# Altium footprint library BK885.PcbLib: 1 footprints
Each footprint in its own frame and in the unit in brackets; x right, y up, seen from the top. Pads: shape width x height; smd on the part's side, far side on the other; paste and mask are expansions set on the pad; w line width, h text height; cw(c..) or ccw(c..) is an arc to the next point about the centre after c.
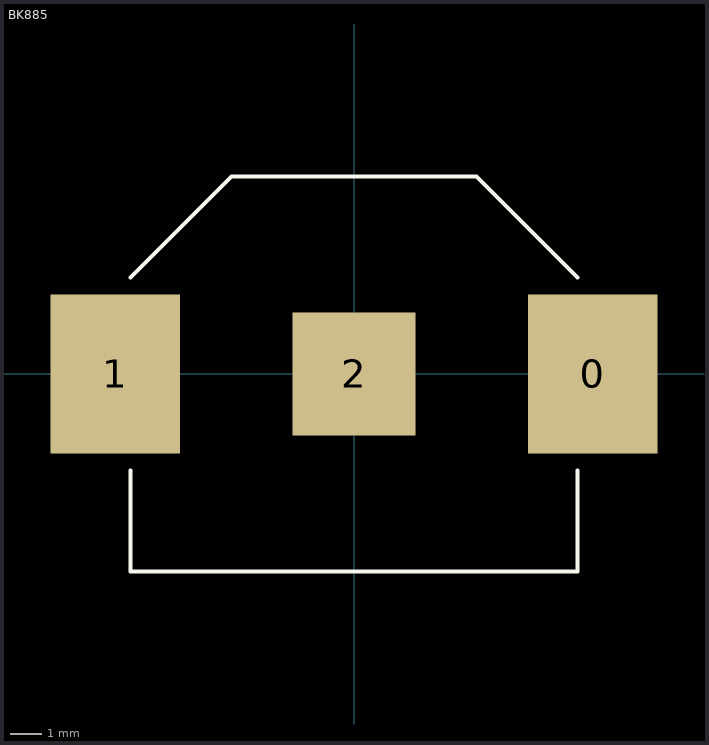
[diagram p0: the footprint, top view; thin cyan lines are the x and y axes]

## BK885 [mm]
pads (3):
  rect 4.17x5.1 smd: 0(7.685,0) 1(-7.685,0)
  rect 3.96x3.96 smd: 2(0,0)
Top Overlay:
  lines w0.127: -7.188,-3.099 -7.188,-6.35 7.188,-6.35 7.188,-3.099 ; -7.188,3.099 -3.937,6.35 3.937,6.35 7.188,3.099
3D body "User Library-CR1216.STEP": height 1.6, standoff 0, extent -6.2,-6.2 6.2,6.2
3D body "User Library-BK-885-TR.step": height 3.17, standoff 0, extent -9.78,-6.35 9.78,6.35